# EAGLE library part MA700 (library ma700_breakout)
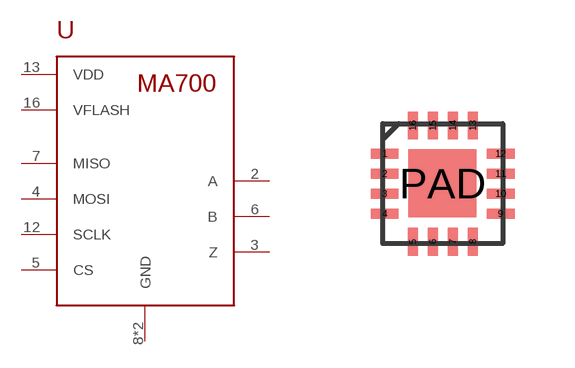
[diagram p0: symbol with the pads of QFN-16; footprint QFN-16]

Designator prefix -

## MA700  [QFN-16]
2  A
3  Z
4  MOSI
5  CS
6  B
7  MISO
8  GND
12  SCLK
13  VDD
16  VFLASH
PAD  GND

## Footprint QFN-16 (pad centres in mm)
smd 0.7 x 0.25: 1 -1.45,0.75; 2 -1.45,0.25; 3 -1.45,-0.25; 4 -1.45,-0.75; 9 1.45,-0.75; 10 1.45,-0.25; 11 1.45,0.25; 12 1.45,0.75
smd 0.25 x 0.7: 5 -0.75,-1.45; 6 -0.25,-1.45; 7 0.25,-1.45; 8 0.75,-1.45; 13 0.75,1.45; 14 0.25,1.45; 15 -0.25,1.45; 16 -0.75,1.45
smd 1.7 x 1.7: PAD 0,0